# EAGLE library part JS5208 (library BadgeParts)
E-SWITCH - JS5208 - SWITCH, NAVIGATION, 5 POSITION, 20mA, SMD Source: Datasheet <https://www.e-switch.com/system/asset/product_line/data_sheet/23/JS5208.pdf>
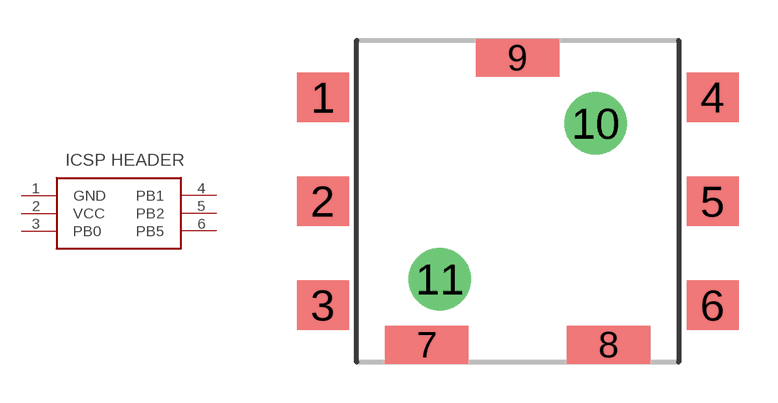
[diagram p4: symbol with the pads of JS5208; footprint JS5208]

Designator prefix S

## JS5208 (ARROW_PART_NUMBER: JS5208; DESCRIPTION: E-SWITCH - JS5208 - SWITCH, NAVIGATION, 5 POSITION, 20mA, SMD; HEIGHT: mm; MANUFACTURER_NAME: E-Switch; MANUFACTURER_PART_NUMBER: JS5208)  [JS5208]
1  GND
2  VCC
3  PB0
4  PB1
5  PB2
6  PB5

## Footprint JS5208 (pad centres in mm)
JS5208
smd 2 x 1.9: 1 -7.5,4; 2 -7.5,0; 3 -7.5,-4; 4 7.5,4; 5 7.5,0; 6 7.5,-4
smd 3.2 x 1.45: 7 -3.5,-5.525; 8 3.5,-5.525; 9 0,5.525
drill 1.6 pad 1.6: 10 3,3; 11 -3,-3